# Altium integrated library 1K_Res_CRS2010AFX-1001ELF.IntLib: 1 symbol
Pins are listed as number, name and electrical type; pins without a type are passive.

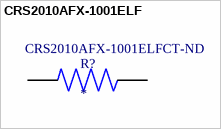
[diagram p0: symbol CRS2010AFX-1001ELF]

## CRS2010AFX-1001ELF
designator R?  Supplier Part Number 1: CRS2010AFX-1001ELFCT-ND
MP: CRS2010AFX-1001ELF; Package: None; Price: None; Value: *; Availability: Unavailable; Supplier 1: Digi-Key
footprint RESC5025X70N
pins: 1, 2